# Altium schematic symbol library halfgelijders.SchLib: 2 symbols
Pins are listed as number, name and electrical type; pins without a type are passive.

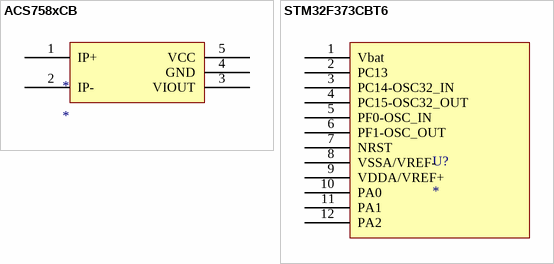
[diagram p0: symbols ACS758xCB to STM32F373CBT6]

## ACS758xCB
designator *
pins: 1 IP+, 2 IP-, 3 VIOUT, 4 GND, 5 VCC

## STM32F373CBT6
designator U?
pins: 1 Vbat, 2 PC13, 3 PC14-OSC32_IN, 4 PC15-OSC32_OUT, 5 PF0-OSC_IN, 6 PF1-OSC_OUT, 7 NRST, 8 VSSA/VREF-, 9 VDDA/VREF+, 10 PA0, 11 PA1, 12 PA2